# EAGLE library part TRAFO-HAHN-BV_UI_392_0094 (library 1A-meinLib)
Blocktransformator 2x sekundär, 10VA, HAHN Typ BV UI 392 0094. NICHT pinkompatibel mit ERA UI 39/8
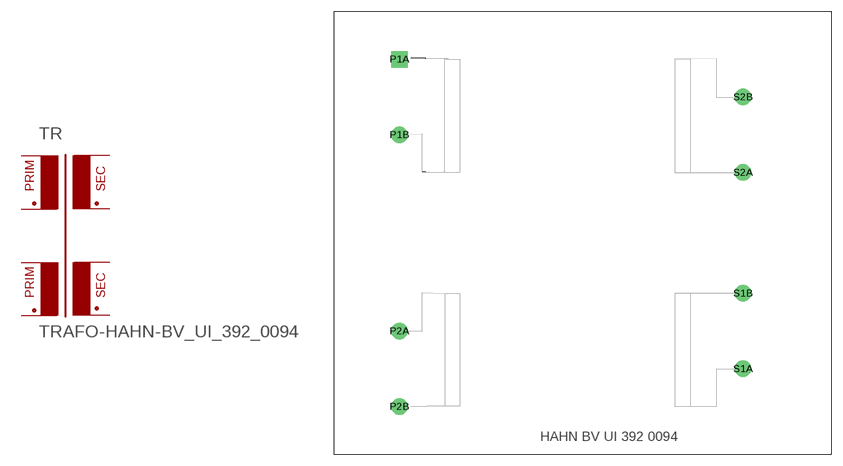
[diagram p109: symbol with the pads of TRAFO-HAHN-BV-UI-392_0094; footprint TRAFO-HAHN-BV-UI-392_0094]

Designator prefix TR

## TRAFO-HAHN-BV_UI_392_0094  [TRAFO-HAHN-BV-UI-392_0094]
P1A  P1A  pas
P1B  P1B  pas
P2A  P2A  pas
P2B  P2B  pas
S1A  S1A  pas
S1B  S1B  pas
S2A  S2A  pas
S2B  S2B  pas

## Footprint TRAFO-HAHN-BV-UI-392_0094 (pad centres in mm)
Spezialtransformator, 36V/2x18V, Fa. Hahn
drill 1.1 pad 2.184 square: P1A -25.5,19.92
drill 1.1 pad 2.184 round: P1B -25.5,9.92; P2A -25.5,-16.08; P2B -25.5,-26.08; S1A 19.96,-21.08; S1B 19.96,-11.08; S2A 19.96,4.92; S2B 19.96,14.92